# EAGLE library part TPS2042BDR (library TPS2042BDR)
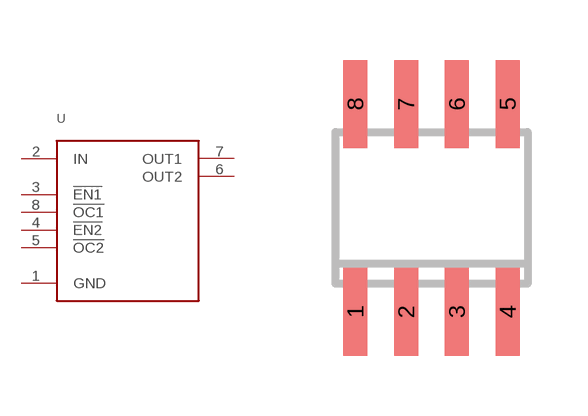
[diagram p0: symbol with the pads of SO08; footprint SO08]

Designator prefix -

## TPS2042BDR  [SO08]
1  GND
2  IN
3  !EN1
4  !EN2
5  !OC2
6  OUT2
7  OUT1
8  !OC1

## Footprint SO08 (pad centres in mm)
SMALL OUTLINE INTEGRATED CIRCUIT body 3.9 mm/JEDEC MS-012AA
smd 0.6 x 2.2: 1 -1.905,-2.6; 2 -0.635,-2.6; 3 0.635,-2.6; 4 1.905,-2.6; 5 1.905,2.6; 6 0.635,2.6; 7 -0.635,2.6; 8 -1.905,2.6